# Altium footprint library Diode_Nexperia_BAT54C,215_eec_IPC_C.PcbLib: 1 footprints
Each footprint in its own frame and in the unit in brackets; x right, y up, seen from the top. Pads: shape width x height; smd on the part's side, far side on the other; paste and mask are expansions set on the pad; w line width, h text height; cw(c..) or ccw(c..) is an arc to the next point about the centre after c.
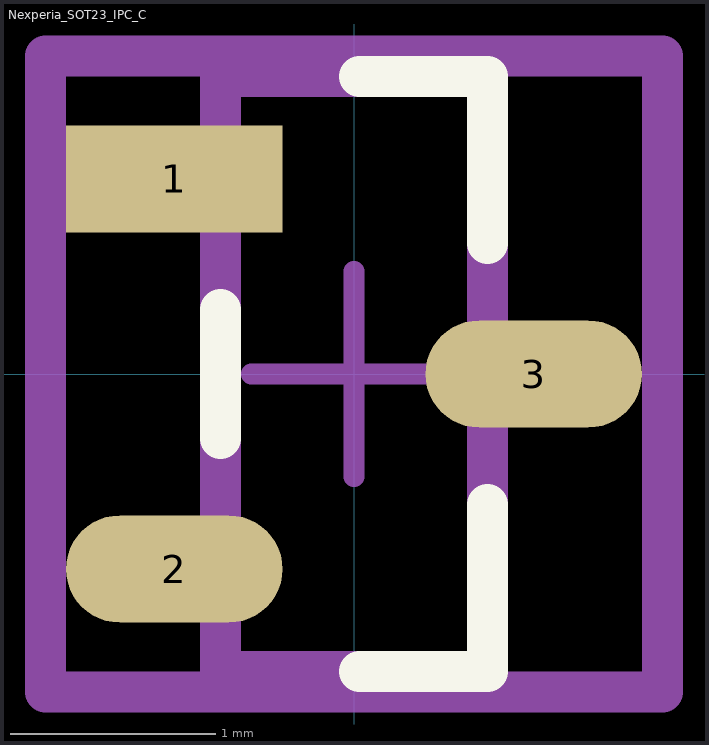
[diagram p0: the footprint, top view; thin cyan lines are the x and y axes]

## Nexperia_SOT23_IPC_C [mm]
pads (3):
  rect 1.055x0.522 smd paste+0 mask+0: 1(-0.875,0.95)
  rrect100% 1.055x0.522 smd paste+0 mask+0: 2(-0.875,-0.95) 3(0.875,0)
Top Overlay:
  lines w0.2: -0.65,-0.314 -0.65,0.314 ; 0.027,-1.45 0.65,-1.45 0.65,-0.636 ; 0.027,1.45 0.65,1.45 0.65,0.636
Mechanical 10:
  lines w0.2: -1.503,-1.55 1.503,-1.55 1.503,1.55 -1.503,1.55 -1.503,-1.55
  text ".Designator" at 0,0 h1
Mechanical 12:
  lines w0.2: -0.65,-1.45 0.65,-1.45 0.65,1.45 -0.65,1.45 -0.65,-1.45
Mechanical 15:
  lines w0.1: -0.5,0 0.5,0 ; 0,-0.5 0,0.5
  lines w0.2: -1.503,-1.55 1.503,-1.55 1.503,1.55 -1.503,1.55 -1.503,-1.55
3D body "Diode_Nexperia_BAT54C,215_eec.STEP": height 0.25, standoff 0, extent -1.503,-1.55 1.503,1.55